# Altium footprint library HARWIN_S8421-45R.PcbLib: 1 footprints
Each footprint in its own frame and in the unit in brackets; x right, y up, seen from the top. Pads: shape width x height; smd on the part's side, far side on the other; paste and mask are expansions set on the pad; w line width, h text height; cw(c..) or ccw(c..) is an arc to the next point about the centre after c.
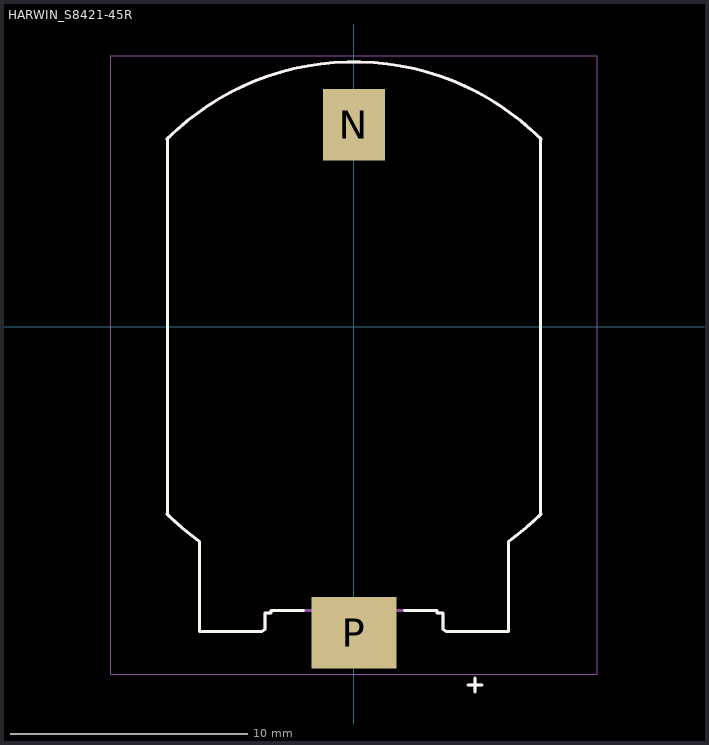
[diagram p0: the footprint, top view; thin cyan lines are the x and y axes]

## HARWIN_S8421-45R [mm]
height 5.3
pads (2):
  rect 2.6x3 smd: N(0,8.5)
  rect 3.6x3 smd: P(0,-12.9)
Top Overlay:
  lines w0.127: -7.884,-7.884 ccw(c0,0) -6.554,-9.021 ; -7.884,7.884 cw(c0,0) 7.884,7.884 ; -7.85,-7.918 -7.85,7.918 ; -6.5,-9.059 -6.5,-12.85 -3.889,-12.85 -3.75,-12.758 -3.75,-12.12 -3.75,-12.07 -3.5,-12.07 -3.5,-11.97 -2.12,-11.97 ; 2.12,-11.97 3.5,-11.97 3.5,-12.07 3.75,-12.07 3.75,-12.109 3.75,-12.12 3.75,-12.758 3.889,-12.85 6.5,-12.85 6.5,-9.059 ; 4.8,-15.1 5.4,-15.1 ; 5.1,-15.4 5.1,-14.8 ; 6.554,-9.021 ccw(c0,0) 7.884,-7.884 ; 7.85,-7.918 7.85,7.918
Mechanical 13:
  lines w0.127: -7.884,-7.884 ccw(c0,0) -6.554,-9.021 ; -7.884,7.884 cw(c0,0) 7.884,7.884 ; -7.85,-7.918 -7.85,7.918 ; -6.5,-9.059 -6.5,-12.85 -3.889,-12.85 -3.75,-12.758 -3.75,-12.12 -3.75,-12.07 -3.5,-12.07 -3.5,-11.97 3.5,-11.97 3.5,-12.07 3.75,-12.07 3.75,-12.109 3.75,-12.12 3.75,-12.758 3.889,-12.85 6.5,-12.85 6.5,-9.059 ; 4.8,-15.1 5.4,-15.1 ; 5.1,-15.4 5.1,-14.8 ; 6.554,-9.021 ccw(c0,0) 7.884,-7.884 ; 7.85,-7.918 7.85,7.918
Mechanical 15:
  lines w0.05: -10.25,-14.65 -10.25,11.4 10.25,11.4 10.25,-14.65 -10.25,-14.65